# Altium schematic symbol library DS3231.SchLib: 1 symbol
Pins are listed as number, name and electrical type; pins without a type are passive.

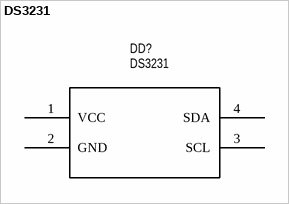
[diagram p0: symbol DS3231]

## DS3231
designator DD?
footprint DS3231
pins: 1 VCC, 2 GND, 3 SCL, 4 SDA